# Altium integrated library Microchip PIC24F.IntLib: 529 symbols (part 1 of 32)
Pins are listed as number, name and electrical type; pins without a type are passive.

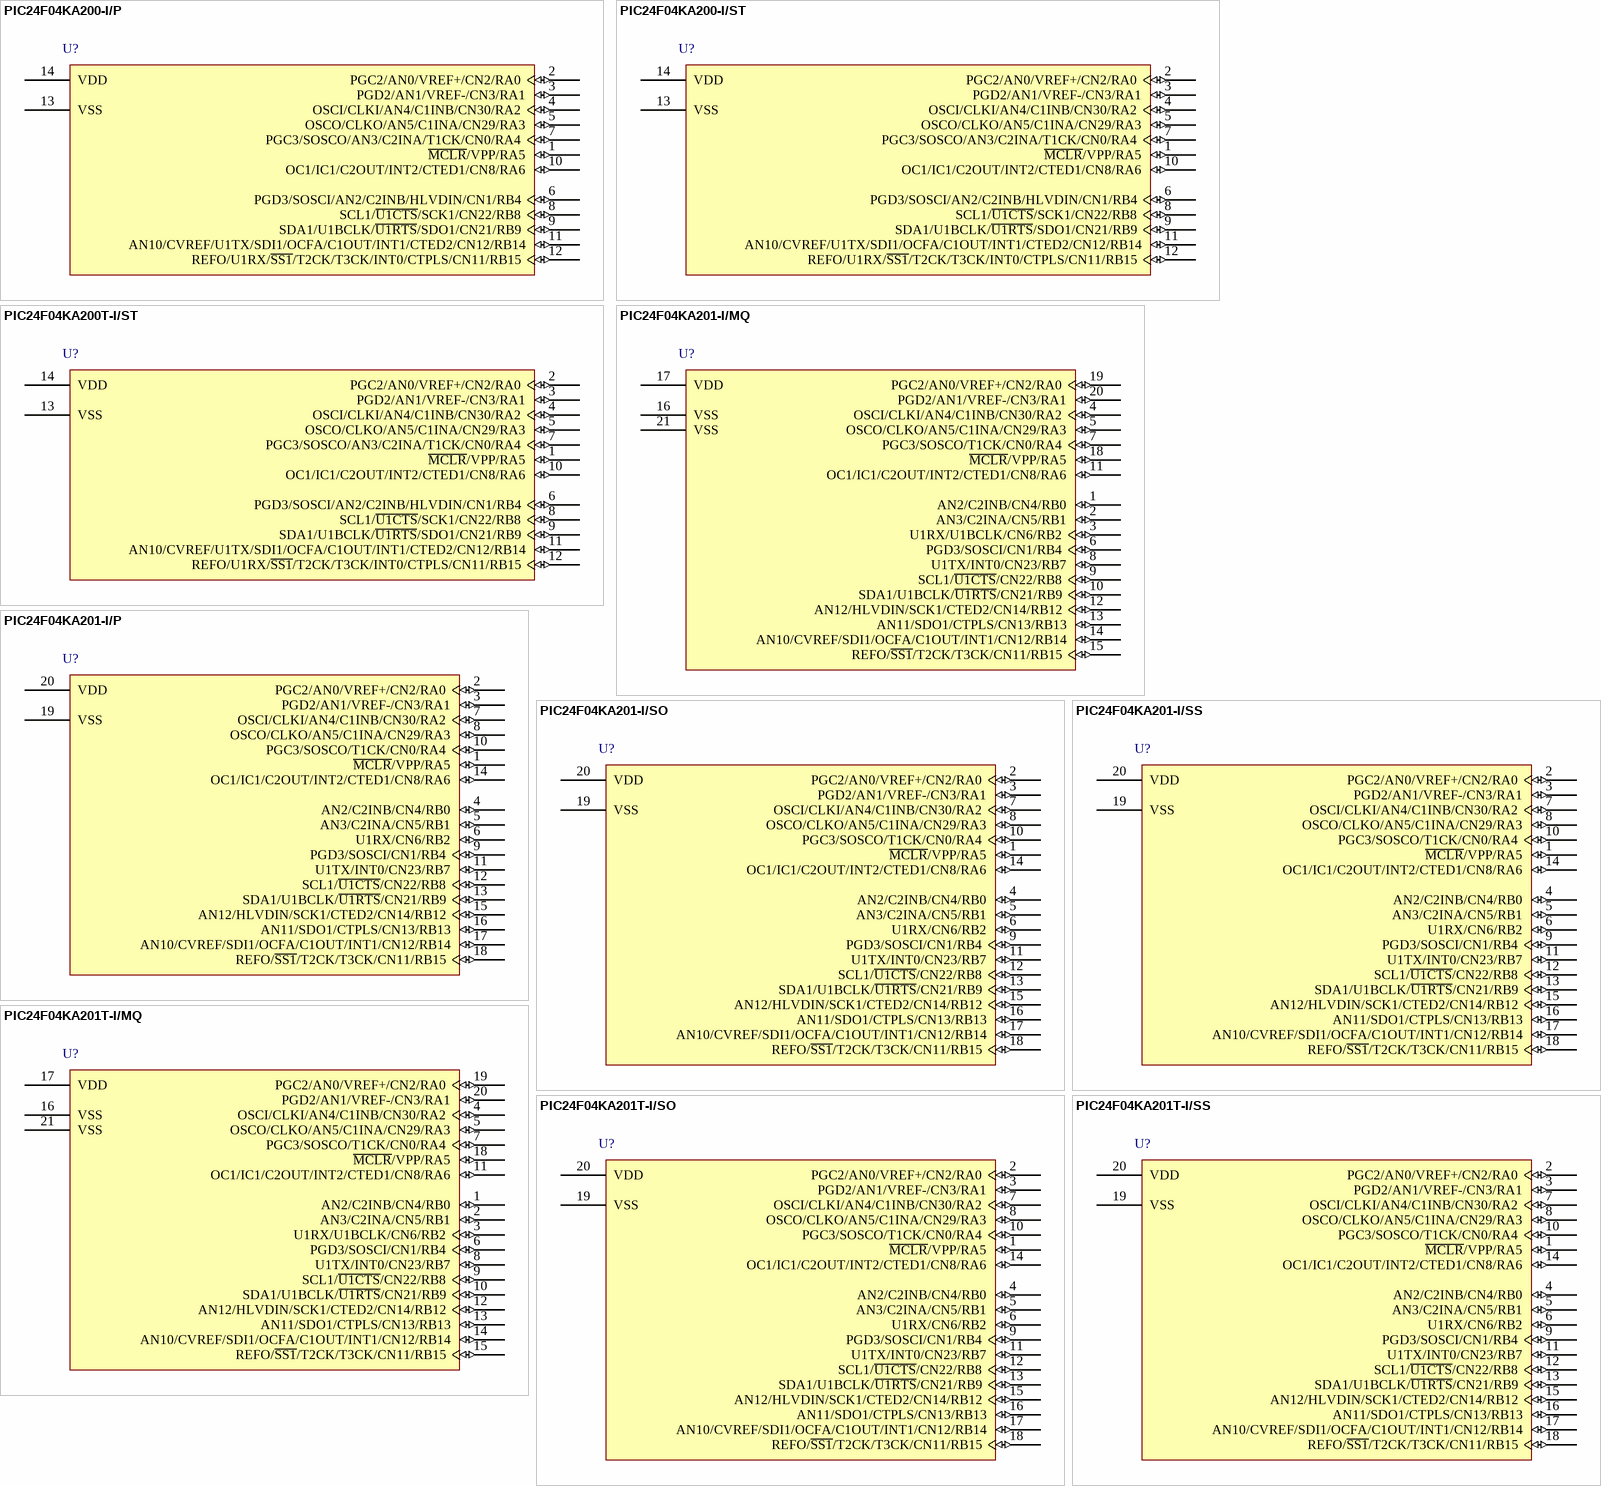
[diagram p0: symbols PIC24F04KA200-I/P to PIC24F04KA201T-I/SS]

## PIC24F04KA200-I/P
designator U?
General Purpose 16-Bit Flash Microcontroller with nanoWatt XLP Technology, 4KB Flash, 512 bytes SRAM, 14-Pin PDIP, Industrial Temperature; Manufacturer: Microchip; PartNumber: PIC24F04KA200-I/P; DatasheetVersion: revB, May-2009; PackageVersion: revBB, Aug-2009; PackageReference: PDIP300-P14; PackageDescription: 14-Lead Plastic Dual In-Line (P) - 300 mil Body [PDIP]; Supplier 1: Digi-Key; Supplier Part Number 1: PIC24F04KA200-I/P-ND; Supplier 2: Farnell; Supplier Part Number 2: 1740231; Supplier 3: Newark; Supplier Part Number 3: 08R2003; Supplier 4: Mouser; Supplier Part Number 4: 579-PIC24F04KA200-IP; Mounting Technology: Through Hole; ComponentLink1Description: Manufacturer URL; ComponentLink1URL: http://www.microchip.com/; ComponentLink2Description: Datasheet; ComponentLink2URL: http://ww1.microchip.com/downloads/en/DeviceDoc/39937b.pdf; ComponentLink3Description: Package Specification; ComponentLink3URL: http://www.microchip.com/stellent/groups/techpub_sg/documents/packagingspec/en012702.pdf
footprint PDIP300-P14 (DIP, 14-Leads, Row Spacing 7.62mm, Pitch 2.54mm, Body 19.2x6.6mm)
pins: 1 ~{MCLR}/VPP/RA5 (io), 2 PGC2/AN0/VREF+/CN2/RA0 (io), 3 PGD2/AN1/VREF-/CN3/RA1 (io), 4 OSCI/CLKI/AN4/C1INB/CN30/RA2 (io), 5 OSCO/CLKO/AN5/C1INA/CN29/RA3 (io), 6 PGD3/SOSCI/AN2/C2INB/HLVDIN/CN1/RB4 (io), 7 PGC3/SOSCO/AN3/C2INA/T1CK/CN0/RA4 (io), 8 SCL1/~{U1CTS}/SCK1/CN22/RB8 (io), 9 SDA1/U1BCLK/~{U1RTS}/SDO1/CN21/RB9 (io), 10 OC1/IC1/C2OUT/INT2/CTED1/CN8/RA6 (io), 11 AN10/CVREF/U1TX/SDI1/OCFA/C1OUT/INT1/CTED2/CN12/RB14 (io), 12 REFO/U1RX/~{SS1}/T2CK/T3CK/INT0/CTPLS/CN11/RB15 (io), 13 VSS (power), 14 VDD (power)

## PIC24F04KA200-I/ST
designator U?
General Purpose 16-Bit Flash Microcontroller with nanoWatt XLP Technology, 4KB Flash, 512 bytes SRAM, 14-Pin TSSOP, Industrial Temperature; Manufacturer: Microchip; PartNumber: PIC24F04KA200-I/ST; DatasheetVersion: revB, May-2009; PackageVersion: revBB, Aug-2009; PackageReference: TSSOP-ST14; PackageDescription: 14-Lead Plastic Thin Shrink Small Outline (ST) - 4.4mm Body [TSSOP]; Supplier 1: Digi-Key; Supplier Part Number 1: PIC24F04KA200-I/ST-ND; Supplier 2: Farnell; Supplier Part Number 2: 1740232; Supplier 3: Newark; Supplier Part Number 3: 08R2004; Supplier 4: Mouser; Supplier Part Number 4: 579-PIC24F04KA200IST; Mounting Technology: Surface Mount; ComponentLink1Description: Manufacturer URL; ComponentLink1URL: http://www.microchip.com/; ComponentLink2Description: Datasheet; ComponentLink2URL: http://ww1.microchip.com/downloads/en/DeviceDoc/39937b.pdf; ComponentLink3Description: Package Specification; ComponentLink3URL: http://www.microchip.com/stellent/groups/techpub_sg/documents/packagingspec/en012702.pdf
footprint TSSOP-ST14_N (TSOP, 14-Leads, Body 5x4.4mm, Pitch 0.65mm, IPC Medium Density)
footprint TSSOP-ST14_L (TSOP, 14-Leads, Body 5x4.4mm, Pitch 0.65mm, IPC High Density)
footprint TSSOP-ST14_M (TSOP, 14-Leads, Body 5x4.4mm, Pitch 0.65mm, IPC Low Density)
pins: 1 ~{MCLR}/VPP/RA5 (io), 2 PGC2/AN0/VREF+/CN2/RA0 (io), 3 PGD2/AN1/VREF-/CN3/RA1 (io), 4 OSCI/CLKI/AN4/C1INB/CN30/RA2 (io), 5 OSCO/CLKO/AN5/C1INA/CN29/RA3 (io), 6 PGD3/SOSCI/AN2/C2INB/HLVDIN/CN1/RB4 (io), 7 PGC3/SOSCO/AN3/C2INA/T1CK/CN0/RA4 (io), 8 SCL1/~{U1CTS}/SCK1/CN22/RB8 (io), 9 SDA1/U1BCLK/~{U1RTS}/SDO1/CN21/RB9 (io), 10 OC1/IC1/C2OUT/INT2/CTED1/CN8/RA6 (io), 11 AN10/CVREF/U1TX/SDI1/OCFA/C1OUT/INT1/CTED2/CN12/RB14 (io), 12 REFO/U1RX/~{SS1}/T2CK/T3CK/INT0/CTPLS/CN11/RB15 (io), 13 VSS (power), 14 VDD (power)

## PIC24F04KA200T-I/ST
designator U?
General Purpose 16-Bit Flash Microcontroller with nanoWatt XLP Technology, 4KB Flash, 512 bytes SRAM, 14-Pin TSSOP, Industrial Temperature, Tape and Reel; Manufacturer: Microchip; PartNumber: PIC24F04KA200T-I/ST; DatasheetVersion: revB, May-2009; PackageVersion: revBB, Aug-2009; PackageReference: TSSOP-ST14; PackageDescription: 14-Lead Plastic Thin Shrink Small Outline (ST) - 4.4mm Body [TSSOP]; Supplier 1: Digi-Key; Supplier Part Number 1: PIC24F04KA200T-I/ST-ND; Supplier 2: Newark; Supplier Part Number 2: 08R2005; Supplier 3: Mouser; Supplier Part Number 3: 579-24F04KA200T-I/ST; Mounting Technology: Surface Mount; ComponentLink1Description: Manufacturer URL; ComponentLink1URL: http://www.microchip.com/; ComponentLink2Description: Datasheet; ComponentLink2URL: http://ww1.microchip.com/downloads/en/DeviceDoc/39937b.pdf; ComponentLink3Description: Package Specification; ComponentLink3URL: http://www.microchip.com/stellent/groups/techpub_sg/documents/packagingspec/en012702.pdf
footprint TSSOP-ST14_N (TSOP, 14-Leads, Body 5x4.4mm, Pitch 0.65mm, IPC Medium Density)
footprint TSSOP-ST14_L (TSOP, 14-Leads, Body 5x4.4mm, Pitch 0.65mm, IPC High Density)
footprint TSSOP-ST14_M (TSOP, 14-Leads, Body 5x4.4mm, Pitch 0.65mm, IPC Low Density)
pins: 1 ~{MCLR}/VPP/RA5 (io), 2 PGC2/AN0/VREF+/CN2/RA0 (io), 3 PGD2/AN1/VREF-/CN3/RA1 (io), 4 OSCI/CLKI/AN4/C1INB/CN30/RA2 (io), 5 OSCO/CLKO/AN5/C1INA/CN29/RA3 (io), 6 PGD3/SOSCI/AN2/C2INB/HLVDIN/CN1/RB4 (io), 7 PGC3/SOSCO/AN3/C2INA/T1CK/CN0/RA4 (io), 8 SCL1/~{U1CTS}/SCK1/CN22/RB8 (io), 9 SDA1/U1BCLK/~{U1RTS}/SDO1/CN21/RB9 (io), 10 OC1/IC1/C2OUT/INT2/CTED1/CN8/RA6 (io), 11 AN10/CVREF/U1TX/SDI1/OCFA/C1OUT/INT1/CTED2/CN12/RB14 (io), 12 REFO/U1RX/~{SS1}/T2CK/T3CK/INT0/CTPLS/CN11/RB15 (io), 13 VSS (power), 14 VDD (power)

## PIC24F04KA201-I/MQ
designator U?
General Purpose 16-Bit Flash Microcontroller with nanoWatt XLP Technology, 4KB Flash, 512 bytes SRAM, 20-Pin QFN, Industrial Temperature; Manufacturer: Microchip; PartNumber: PIC24F04KA201-I/MQ; DatasheetVersion: revB, May-2009; PackageVersion: revBB, Aug-2009; PackageReference: QFN-MQ20; PackageDescription: 20-Lead Plastic Quad Flat, No Lead Package (MQ) - 5x5x0.9 mm Body [QFN]; Supplier 1: Digi-Key; Supplier Part Number 1: PIC24F04KA201-I/MQ-ND; Supplier 2: Farnell; Supplier Part Number 2: 1740233; Supplier 3: Newark; Supplier Part Number 3: 08R2006; Supplier 4: Mouser; Supplier Part Number 4: 579-PIC24F04KA201IMQ; Mounting Technology: Surface Mount; ComponentLink1Description: Manufacturer URL; ComponentLink1URL: http://www.microchip.com/; ComponentLink2Description: Datasheet; ComponentLink2URL: http://ww1.microchip.com/downloads/en/DeviceDoc/39937b.pdf; ComponentLink3Description: Package Specification; ComponentLink3URL: http://www.microchip.com/stellent/groups/techpub_sg/documents/packagingspec/en012702.pdf
footprint QFN-MQ20_N (QFN, 20-Leads, Body 5x5mm, Pitch 0.65mm, Thermal Pad 3.4x3.4mm, IPC Medium Density)
footprint QFN-MQ20_L (QFN, 20-Leads, Body 5x5mm, Pitch 0.65mm, Thermal Pad 3.4x3.4mm, IPC High Density)
footprint QFN-MQ20_M (QFN, 20-Leads, Body 5x5mm, Pitch 0.65mm, Thermal Pad 3.4x3.4mm, IPC Low Density)
pins: 1 AN2/C2INB/CN4/RB0 (io), 2 AN3/C2INA/CN5/RB1 (io), 3 U1RX/U1BCLK/CN6/RB2 (io), 4 OSCI/CLKI/AN4/C1INB/CN30/RA2 (io), 5 OSCO/CLKO/AN5/C1INA/CN29/RA3 (io), 6 PGD3/SOSCI/CN1/RB4 (io), 7 PGC3/SOSCO/T1CK/CN0/RA4 (io), 8 U1TX/INT0/CN23/RB7 (io), 9 SCL1/~{U1CTS}/CN22/RB8 (io), 10 SDA1/U1BCLK/~{U1RTS}/CN21/RB9 (io), 11 OC1/IC1/C2OUT/INT2/CTED1/CN8/RA6 (io), 12 AN12/HLVDIN/SCK1/CTED2/CN14/RB12 (io), 13 AN11/SDO1/CTPLS/CN13/RB13 (io), 14 AN10/CVREF/SDI1/OCFA/C1OUT/INT1/CN12/RB14 (io), 15 REFO/~{SS1}/T2CK/T3CK/CN11/RB15 (io), 16 VSS (power), 17 VDD (power), 18 ~{MCLR}/VPP/RA5 (io), 19 PGC2/AN0/VREF+/CN2/RA0 (io), 20 PGD2/AN1/VREF-/CN3/RA1 (io), 21 VSS (power)

## PIC24F04KA201-I/P
designator U?
General Purpose 16-Bit Flash Microcontroller with nanoWatt XLP Technology, 4KB Flash, 512 bytes SRAM, 20-Pin PDIP, Industrial Temperature; Manufacturer: Microchip; PartNumber: PIC24F04KA201-I/P; DatasheetVersion: revB, May-2009; PackageVersion: revBB, Aug-2009; PackageReference: PDIP300-P20; PackageDescription: 20-Lead Plastic Dual In-Line (P) - 300 mil Body [PDIP]; Supplier 1: Digi-Key; Supplier Part Number 1: PIC24F04KA201-I/P-ND; Supplier 2: Farnell; Supplier Part Number 2: 1740235; Supplier 3: Newark; Supplier Part Number 3: 08R2007; Supplier 4: Mouser; Supplier Part Number 4: 579-PIC24F04KA201-IP; Mounting Technology: Through Hole; ComponentLink1Description: Manufacturer URL; ComponentLink1URL: http://www.microchip.com/; ComponentLink2Description: Datasheet; ComponentLink2URL: http://ww1.microchip.com/downloads/en/DeviceDoc/39937b.pdf; ComponentLink3Description: Package Specification; ComponentLink3URL: http://www.microchip.com/stellent/groups/techpub_sg/documents/packagingspec/en012702.pdf
footprint PDIP300-P20 (DIP, 20-Leads, Row Spacing 7.62mm, Pitch 2.54mm, Body 25.9x6.6mm)
pins: 1 ~{MCLR}/VPP/RA5 (io), 2 PGC2/AN0/VREF+/CN2/RA0 (io), 3 PGD2/AN1/VREF-/CN3/RA1 (io), 4 AN2/C2INB/CN4/RB0 (io), 5 AN3/C2INA/CN5/RB1 (io), 6 U1RX/CN6/RB2 (io), 7 OSCI/CLKI/AN4/C1INB/CN30/RA2 (io), 8 OSCO/CLKO/AN5/C1INA/CN29/RA3 (io), 9 PGD3/SOSCI/CN1/RB4 (io), 10 PGC3/SOSCO/T1CK/CN0/RA4 (io), 11 U1TX/INT0/CN23/RB7 (io), 12 SCL1/~{U1CTS}/CN22/RB8 (io), 13 SDA1/U1BCLK/~{U1RTS}/CN21/RB9 (io), 14 OC1/IC1/C2OUT/INT2/CTED1/CN8/RA6 (io), 15 AN12/HLVDIN/SCK1/CTED2/CN14/RB12 (io), 16 AN11/SDO1/CTPLS/CN13/RB13 (io), 17 AN10/CVREF/SDI1/OCFA/C1OUT/INT1/CN12/RB14 (io), 18 REFO/~{SS1}/T2CK/T3CK/CN11/RB15 (io), 19 VSS (power), 20 VDD (power)

## PIC24F04KA201-I/SO
designator U?
General Purpose 16-Bit Flash Microcontroller with nanoWatt XLP Technology, 4KB Flash, 512 bytes SRAM, 20-Pin SOIC, Industrial Temperature; Manufacturer: Microchip; PartNumber: PIC24F04KA201-I/SO; DatasheetVersion: revB, May-2009; PackageVersion: revBB, Aug-2009; PackageReference: SOIC-SO20; PackageDescription: 20-Lead Plastic Small Outline (SO) - Wide 7.50mm Body [SOIC]; Supplier 1: Digi-Key; Supplier Part Number 1: PIC24F04KA201-I/SO-ND; Supplier 2: Farnell; Supplier Part Number 2: 1740236; Supplier 3: Newark; Supplier Part Number 3: 08R2008; Supplier 4: Mouser; Supplier Part Number 4: 579-PIC24F04KA201ISO; Mounting Technology: Surface Mount; Code_JEDEC: MS-013-AC; Code_IPC: SOIC127P1030-20; ComponentLink1Description: Manufacturer URL; ComponentLink1URL: http://www.microchip.com/; ComponentLink2Description: Datasheet; ComponentLink2URL: http://ww1.microchip.com/downloads/en/DeviceDoc/39937b.pdf; ComponentLink3Description: Package Specification; ComponentLink3URL: http://www.microchip.com/stellent/groups/techpub_sg/documents/packagingspec/en012702.pdf
footprint SOIC-SO20_N (SOIC, 20-Leads, Body 12.8x7.5mm, Pitch 1.27mm, IPC Medium Density)
footprint SOIC-SO20_L (SOIC, 20-Leads, Body 12.8x7.5mm, Pitch 1.27mm, IPC High Density)
footprint SOIC-SO20_M (SOIC, 20-Leads, Body 12.8x7.5mm, Pitch 1.27mm, IPC Low Density)
pins: 1 ~{MCLR}/VPP/RA5 (io), 2 PGC2/AN0/VREF+/CN2/RA0 (io), 3 PGD2/AN1/VREF-/CN3/RA1 (io), 4 AN2/C2INB/CN4/RB0 (io), 5 AN3/C2INA/CN5/RB1 (io), 6 U1RX/CN6/RB2 (io), 7 OSCI/CLKI/AN4/C1INB/CN30/RA2 (io), 8 OSCO/CLKO/AN5/C1INA/CN29/RA3 (io), 9 PGD3/SOSCI/CN1/RB4 (io), 10 PGC3/SOSCO/T1CK/CN0/RA4 (io), 11 U1TX/INT0/CN23/RB7 (io), 12 SCL1/~{U1CTS}/CN22/RB8 (io), 13 SDA1/U1BCLK/~{U1RTS}/CN21/RB9 (io), 14 OC1/IC1/C2OUT/INT2/CTED1/CN8/RA6 (io), 15 AN12/HLVDIN/SCK1/CTED2/CN14/RB12 (io), 16 AN11/SDO1/CTPLS/CN13/RB13 (io), 17 AN10/CVREF/SDI1/OCFA/C1OUT/INT1/CN12/RB14 (io), 18 REFO/~{SS1}/T2CK/T3CK/CN11/RB15 (io), 19 VSS (power), 20 VDD (power)

## PIC24F04KA201-I/SS
designator U?
General Purpose 16-Bit Flash Microcontroller with nanoWatt XLP Technology, 4KB Flash, 512 bytes SRAM, 20-Pin SSOP, Industrial Temperature; Manufacturer: Microchip; PartNumber: PIC24F04KA201-I/SS; DatasheetVersion: revB, May-2009; PackageVersion: revBB, Aug-2009; PackageReference: SSOP-SS20; PackageDescription: 20-Lead Plastic Shrink Small Outline (SS) - 5.3mm Body [SSOP]; Supplier 1: Digi-Key; Supplier Part Number 1: PIC24F04KA201-I/SS-ND; Supplier 2: Farnell; Supplier Part Number 2: 1740237; Supplier 3: Newark; Supplier Part Number 3: 08R2009; Supplier 4: Mouser; Supplier Part Number 4: 579-PIC24F04KA201ISS; Mounting Technology: Surface Mount; Code_JEDEC: MO-150; ComponentLink1Description: Manufacturer URL; ComponentLink1URL: http://www.microchip.com/; ComponentLink2Description: Datasheet; ComponentLink2URL: http://ww1.microchip.com/downloads/en/DeviceDoc/39937b.pdf; ComponentLink3Description: Package Specification; ComponentLink3URL: http://www.microchip.com/stellent/groups/techpub_sg/documents/packagingspec/en012702.pdf
footprint SSOP-SS20_N (SOP, 20-Leads, Body 7.2x5.2mm, Pitch 0.65mm, IPC Medium Density)
footprint SSOP-SS20_L (SOP, 20-Leads, Body 7.2x5.2mm, Pitch 0.65mm, IPC High Density)
footprint SSOP-SS20_M (SOP, 20-Leads, Body 7.2x5.2mm, Pitch 0.65mm, IPC Low Density)
pins: 1 ~{MCLR}/VPP/RA5 (io), 2 PGC2/AN0/VREF+/CN2/RA0 (io), 3 PGD2/AN1/VREF-/CN3/RA1 (io), 4 AN2/C2INB/CN4/RB0 (io), 5 AN3/C2INA/CN5/RB1 (io), 6 U1RX/CN6/RB2 (io), 7 OSCI/CLKI/AN4/C1INB/CN30/RA2 (io), 8 OSCO/CLKO/AN5/C1INA/CN29/RA3 (io), 9 PGD3/SOSCI/CN1/RB4 (io), 10 PGC3/SOSCO/T1CK/CN0/RA4 (io), 11 U1TX/INT0/CN23/RB7 (io), 12 SCL1/~{U1CTS}/CN22/RB8 (io), 13 SDA1/U1BCLK/~{U1RTS}/CN21/RB9 (io), 14 OC1/IC1/C2OUT/INT2/CTED1/CN8/RA6 (io), 15 AN12/HLVDIN/SCK1/CTED2/CN14/RB12 (io), 16 AN11/SDO1/CTPLS/CN13/RB13 (io), 17 AN10/CVREF/SDI1/OCFA/C1OUT/INT1/CN12/RB14 (io), 18 REFO/~{SS1}/T2CK/T3CK/CN11/RB15 (io), 19 VSS (power), 20 VDD (power)

## PIC24F04KA201T-I/MQ
designator U?
General Purpose 16-Bit Flash Microcontroller with nanoWatt XLP Technology, 4KB Flash, 512 bytes SRAM, 20-Pin QFN, Industrial Temperature, Tape and Reel; Manufacturer: Microchip; PartNumber: PIC24F04KA201T-I/MQ; DatasheetVersion: revB, May-2009; PackageVersion: revBB, Aug-2009; PackageReference: QFN-MQ20; PackageDescription: 20-Lead Plastic Quad Flat, No Lead Package (MQ) - 5x5x0.9 mm Body [QFN]; Supplier 1: Digi-Key; Supplier Part Number 1: PIC24F04KA201T-I/MQ-ND; Supplier 2: Mouser; Supplier Part Number 2: N/A; Mounting Technology: Surface Mount; ComponentLink1Description: Manufacturer URL; ComponentLink1URL: http://www.microchip.com/; ComponentLink2Description: Datasheet; ComponentLink2URL: http://ww1.microchip.com/downloads/en/DeviceDoc/39937b.pdf; ComponentLink3Description: Package Specification; ComponentLink3URL: http://www.microchip.com/stellent/groups/techpub_sg/documents/packagingspec/en012702.pdf
footprint QFN-MQ20_N (QFN, 20-Leads, Body 5x5mm, Pitch 0.65mm, Thermal Pad 3.4x3.4mm, IPC Medium Density)
footprint QFN-MQ20_L (QFN, 20-Leads, Body 5x5mm, Pitch 0.65mm, Thermal Pad 3.4x3.4mm, IPC High Density)
footprint QFN-MQ20_M (QFN, 20-Leads, Body 5x5mm, Pitch 0.65mm, Thermal Pad 3.4x3.4mm, IPC Low Density)
pins: 1 AN2/C2INB/CN4/RB0 (io), 2 AN3/C2INA/CN5/RB1 (io), 3 U1RX/U1BCLK/CN6/RB2 (io), 4 OSCI/CLKI/AN4/C1INB/CN30/RA2 (io), 5 OSCO/CLKO/AN5/C1INA/CN29/RA3 (io), 6 PGD3/SOSCI/CN1/RB4 (io), 7 PGC3/SOSCO/T1CK/CN0/RA4 (io), 8 U1TX/INT0/CN23/RB7 (io), 9 SCL1/~{U1CTS}/CN22/RB8 (io), 10 SDA1/U1BCLK/~{U1RTS}/CN21/RB9 (io), 11 OC1/IC1/C2OUT/INT2/CTED1/CN8/RA6 (io), 12 AN12/HLVDIN/SCK1/CTED2/CN14/RB12 (io), 13 AN11/SDO1/CTPLS/CN13/RB13 (io), 14 AN10/CVREF/SDI1/OCFA/C1OUT/INT1/CN12/RB14 (io), 15 REFO/~{SS1}/T2CK/T3CK/CN11/RB15 (io), 16 VSS (power), 17 VDD (power), 18 ~{MCLR}/VPP/RA5 (io), 19 PGC2/AN0/VREF+/CN2/RA0 (io), 20 PGD2/AN1/VREF-/CN3/RA1 (io), 21 VSS (power)

## PIC24F04KA201T-I/SO
designator U?
General Purpose 16-Bit Flash Microcontroller with nanoWatt XLP Technology, 4KB Flash, 512 bytes SRAM, 20-Pin SOIC, Industrial Temperature, Tape and Reel; Manufacturer: Microchip; PartNumber: PIC24F04KA201T-I/SO; DatasheetVersion: revB, May-2009; PackageVersion: revBB, Aug-2009; PackageReference: SOIC-SO20; PackageDescription: 20-Lead Plastic Small Outline (SO) - Wide 7.50mm Body [SOIC]; Supplier 1: Digi-Key; Supplier Part Number 1: PIC24F04KA201T-I/SO-ND; Supplier 2: Mouser; Supplier Part Number 2: 579-24F04KA201T-I/SO; Mounting Technology: Surface Mount; Code_JEDEC: MS-013-AC; Code_IPC: SOIC127P1030-20; ComponentLink1Description: Manufacturer URL; ComponentLink1URL: http://www.microchip.com/; ComponentLink2Description: Datasheet; ComponentLink2URL: http://ww1.microchip.com/downloads/en/DeviceDoc/39937b.pdf; ComponentLink3Description: Package Specification; ComponentLink3URL: http://www.microchip.com/stellent/groups/techpub_sg/documents/packagingspec/en012702.pdf
footprint SOIC-SO20_N (SOIC, 20-Leads, Body 12.8x7.5mm, Pitch 1.27mm, IPC Medium Density)
footprint SOIC-SO20_L (SOIC, 20-Leads, Body 12.8x7.5mm, Pitch 1.27mm, IPC High Density)
footprint SOIC-SO20_M (SOIC, 20-Leads, Body 12.8x7.5mm, Pitch 1.27mm, IPC Low Density)
pins: 1 ~{MCLR}/VPP/RA5 (io), 2 PGC2/AN0/VREF+/CN2/RA0 (io), 3 PGD2/AN1/VREF-/CN3/RA1 (io), 4 AN2/C2INB/CN4/RB0 (io), 5 AN3/C2INA/CN5/RB1 (io), 6 U1RX/CN6/RB2 (io), 7 OSCI/CLKI/AN4/C1INB/CN30/RA2 (io), 8 OSCO/CLKO/AN5/C1INA/CN29/RA3 (io), 9 PGD3/SOSCI/CN1/RB4 (io), 10 PGC3/SOSCO/T1CK/CN0/RA4 (io), 11 U1TX/INT0/CN23/RB7 (io), 12 SCL1/~{U1CTS}/CN22/RB8 (io), 13 SDA1/U1BCLK/~{U1RTS}/CN21/RB9 (io), 14 OC1/IC1/C2OUT/INT2/CTED1/CN8/RA6 (io), 15 AN12/HLVDIN/SCK1/CTED2/CN14/RB12 (io), 16 AN11/SDO1/CTPLS/CN13/RB13 (io), 17 AN10/CVREF/SDI1/OCFA/C1OUT/INT1/CN12/RB14 (io), 18 REFO/~{SS1}/T2CK/T3CK/CN11/RB15 (io), 19 VSS (power), 20 VDD (power)

## PIC24F04KA201T-I/SS
designator U?
General Purpose 16-Bit Flash Microcontroller with nanoWatt XLP Technology, 4KB Flash, 512 bytes SRAM, 20-Pin SSOP, Industrial Temperature, Tape and Reel; Manufacturer: Microchip; PartNumber: PIC24F04KA201T-I/SS; DatasheetVersion: revB, May-2009; PackageVersion: revBB, Aug-2009; PackageReference: SSOP-SS20; PackageDescription: 20-Lead Plastic Shrink Small Outline (SS) - 5.3mm Body [SSOP]; Supplier 1: Digi-Key; Supplier Part Number 1: PIC24F04KA201T-I/SS-ND; Supplier 2: Newark; Supplier Part Number 2: 08R2012; Supplier 3: Mouser; Supplier Part Number 3: 579-24F04KA201T-I/SS; Mounting Technology: Surface Mount; Code_JEDEC: MO-150; ComponentLink1Description: Manufacturer URL; ComponentLink1URL: http://www.microchip.com/; ComponentLink2Description: Datasheet; ComponentLink2URL: http://ww1.microchip.com/downloads/en/DeviceDoc/39937b.pdf; ComponentLink3Description: Package Specification; ComponentLink3URL: http://www.microchip.com/stellent/groups/techpub_sg/documents/packagingspec/en012702.pdf
footprint SSOP-SS20_N (SOP, 20-Leads, Body 7.2x5.2mm, Pitch 0.65mm, IPC Medium Density)
footprint SSOP-SS20_L (SOP, 20-Leads, Body 7.2x5.2mm, Pitch 0.65mm, IPC High Density)
footprint SSOP-SS20_M (SOP, 20-Leads, Body 7.2x5.2mm, Pitch 0.65mm, IPC Low Density)
pins: 1 ~{MCLR}/VPP/RA5 (io), 2 PGC2/AN0/VREF+/CN2/RA0 (io), 3 PGD2/AN1/VREF-/CN3/RA1 (io), 4 AN2/C2INB/CN4/RB0 (io), 5 AN3/C2INA/CN5/RB1 (io), 6 U1RX/CN6/RB2 (io), 7 OSCI/CLKI/AN4/C1INB/CN30/RA2 (io), 8 OSCO/CLKO/AN5/C1INA/CN29/RA3 (io), 9 PGD3/SOSCI/CN1/RB4 (io), 10 PGC3/SOSCO/T1CK/CN0/RA4 (io), 11 U1TX/INT0/CN23/RB7 (io), 12 SCL1/~{U1CTS}/CN22/RB8 (io), 13 SDA1/U1BCLK/~{U1RTS}/CN21/RB9 (io), 14 OC1/IC1/C2OUT/INT2/CTED1/CN8/RA6 (io), 15 AN12/HLVDIN/SCK1/CTED2/CN14/RB12 (io), 16 AN11/SDO1/CTPLS/CN13/RB13 (io), 17 AN10/CVREF/SDI1/OCFA/C1OUT/INT1/CN12/RB14 (io), 18 REFO/~{SS1}/T2CK/T3CK/CN11/RB15 (io), 19 VSS (power), 20 VDD (power)

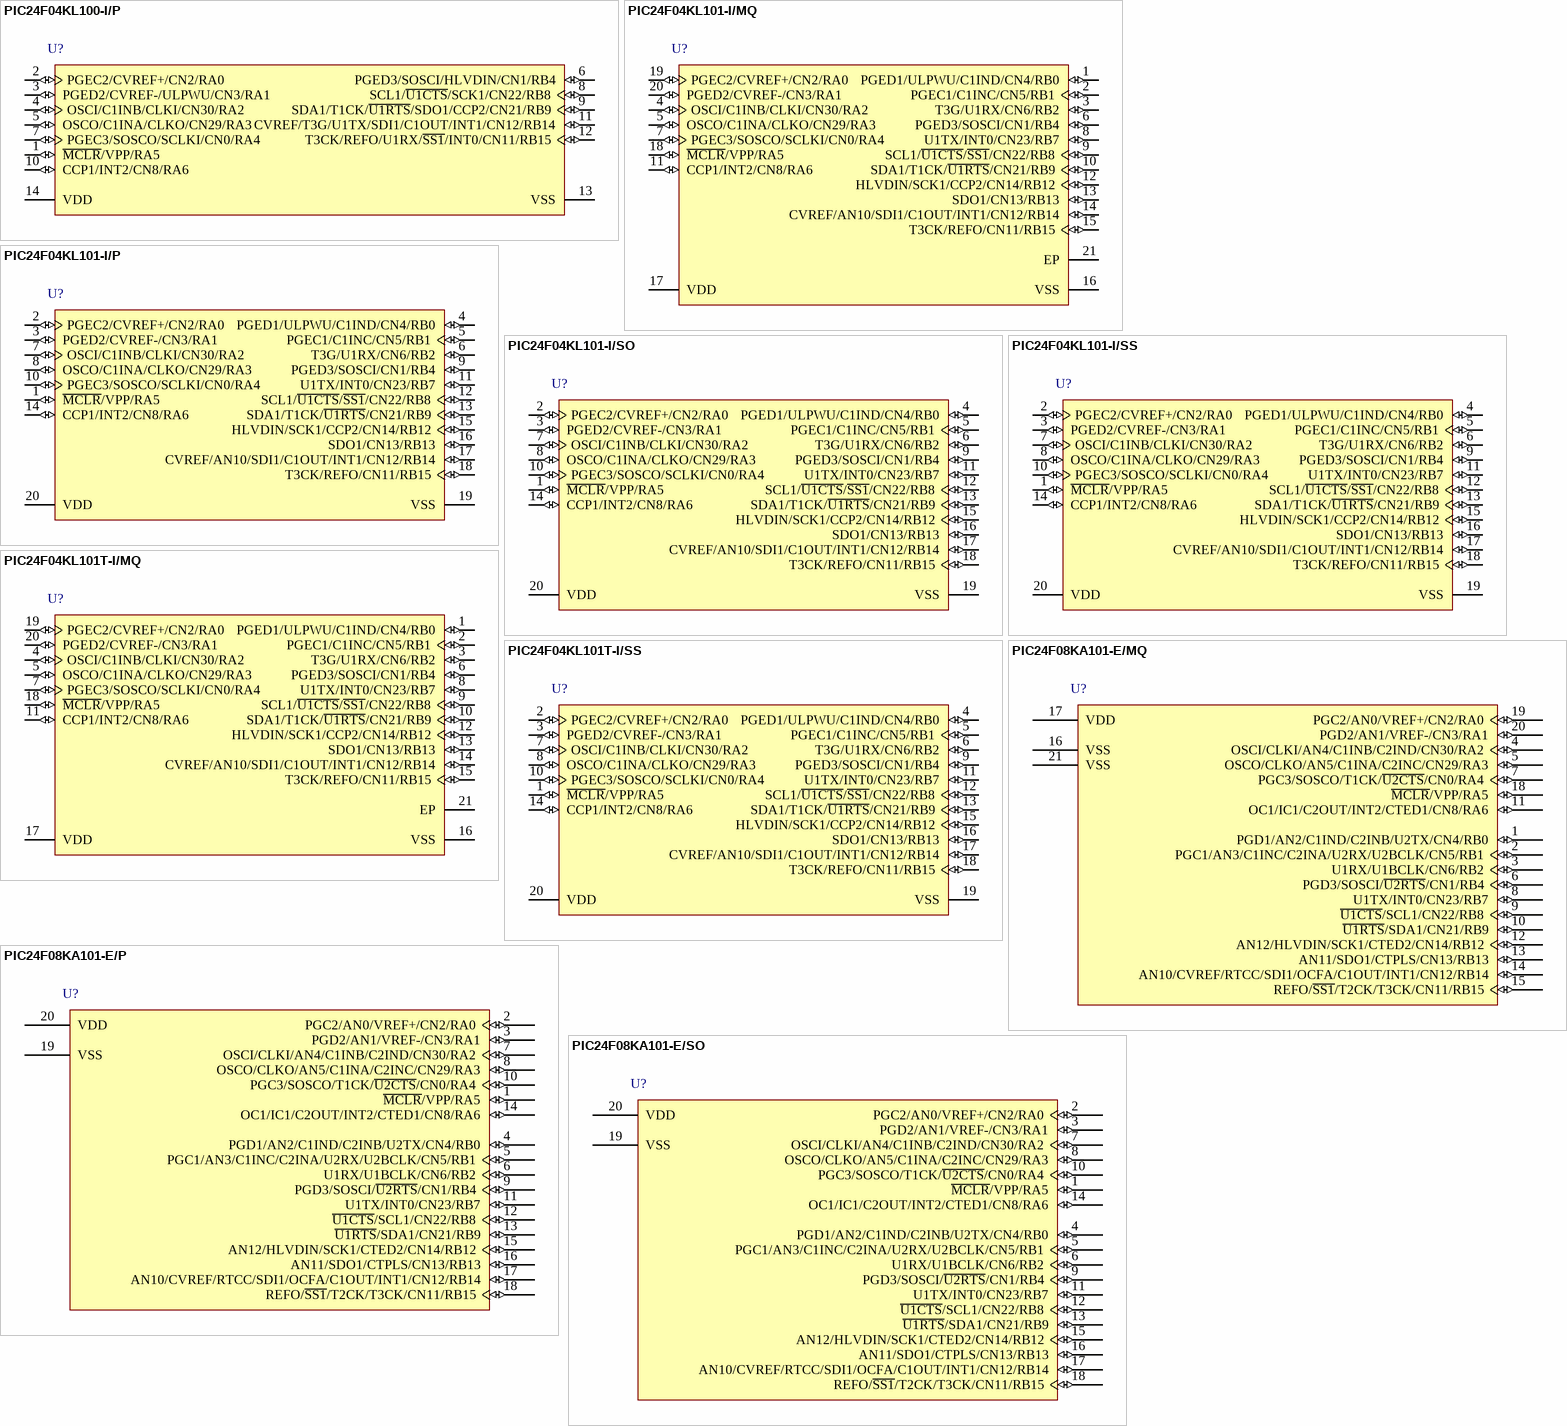
[diagram p1: symbols PIC24F04KL100-I/P to PIC24F08KA101-E/SO]

## PIC24F04KL100-I/P
designator U?
Low-Cost General Purpose 16-Bit Flash Microcontroller with nanoWatt XLP Technology, 16 MIPS, 12 I/O, -40 to 85 degC, 14-pin PDIP (P14), Tube; Manufacturer: Microchip; PartNumber: PIC24F04KL100-I/P; DatasheetVersion: Rev. B; PackageVersion: C04-005B; PackageReference: PDIP-P14; PackageDescription: 14-Lead Plastic Dual In-Line, 6.6 x 19.18 mm Body, 2.54 mm Pitch; Supplier 1: Digi-Key; Supplier Part Number 1: PIC24F04KL100-I/P-ND; Supplier 2: Newark; Supplier Part Number 2: 64T1077; Supplier 3: Mouser; Supplier Part Number 3: 579-PIC24F04KL100I/P; Mounting Technology: Through Hole; ComponentLink1Description: Manufacturer URL; ComponentLink1URL: http://www.microchip.com; ComponentLink2Description: Datasheet; ComponentLink2URL: http://ww1.microchip.com/downloads/en/DeviceDoc/31037b.pdf; ComponentLink3Description: Package Specification; ComponentLink3URL: http://www.microchip.com/stellent/groups/techpub_sg/documents/packagingspec/en012702.pdf; ComponentLink4Description: Product URL; ComponentLink4URL: http://www.microchip.com/PIC24F04KL100
footprint MCHP-PDIP-P14 (DIP, 14-Leads, Body 19.177x6.604mm, Pitch 2.54mm)
pins: 1 ~{MCLR}/VPP/RA5 (io), 2 PGEC2/CVREF+/CN2/RA0 (io), 3 PGED2/CVREF-/ULPWU/CN3/RA1 (io), 4 OSCI/C1INB/CLKI/CN30/RA2 (io), 5 OSCO/C1INA/CLKO/CN29/RA3 (io), 6 PGED3/SOSCI/HLVDIN/CN1/RB4 (io), 7 PGEC3/SOSCO/SCLKI/CN0/RA4 (io), 8 SCL1/~{U1CTS}/SCK1/CN22/RB8 (io), 9 SDA1/T1CK/~{U1RTS}/SDO1/CCP2/CN21/RB9 (io), 10 CCP1/INT2/CN8/RA6 (io), 11 CVREF/T3G/U1TX/SDI1/C1OUT/INT1/CN12/RB14 (io), 12 T3CK/REFO/U1RX/~{SS1}/INT0/CN11/RB15 (io), 13 VSS (power) "Ground Reference for Logic and I/O Pins", 14 VDD (power) "Positive Supply for Peripheral Digital Logic and I/O Pins"

## PIC24F04KL101-I/MQ
designator U?
Low-Cost General Purpose 16-Bit Flash Microcontroller with nanoWatt XLP Technology, 16 MIPS, 17 I/O, -40 to 85 degC, 20-pin QFN (MQ20), Tube; Manufacturer: Microchip; PartNumber: PIC24F04KL101-I/MQ; DatasheetVersion: Rev. B; PackageVersion: C04-139B; PackageReference: QFN-MQ20; PackageDescription: 20-Lead Plastic Quad Flat, No Lead Package, 5 x 5 mm Body, 0.65 mm Pitch; Supplier 1: Digi-Key; Supplier Part Number 1: PIC24F04KL101-I/MQ-ND; Supplier 2: Mouser; Supplier Part Number 2: 579-PIC24F04KL101IMQ; Mounting Technology: Surface Mount; ComponentLink1Description: Manufacturer URL; ComponentLink1URL: http://www.microchip.com; ComponentLink2Description: Datasheet; ComponentLink2URL: http://ww1.microchip.com/downloads/en/DeviceDoc/31037b.pdf; ComponentLink3Description: Package Specification; ComponentLink3URL: http://www.microchip.com/stellent/groups/techpub_sg/documents/packagingspec/en012702.pdf; ComponentLink4Description: Product URL; ComponentLink4URL: http://www.microchip.com/PIC24F04KL101
footprint MCHP-QFN-MQ20_N (QFN, 20-Leads, Body 5x5mm, Pitch 0.65mm, Thermal Pad 3.25x3.25mm, IPC Medium Density)
footprint MCHP-QFN-MQ20_L (QFN, 20-Leads, Body 5x5mm, Pitch 0.65mm, Thermal Pad 3.25x3.25mm, IPC High Density)
footprint MCHP-QFN-MQ20_M (QFN, 20-Leads, Body 5x5mm, Pitch 0.65mm, Thermal Pad 3.25x3.25mm, IPC Low Density)
pins: 1 PGED1/ULPWU/C1IND/CN4/RB0 (io), 2 PGEC1/C1INC/CN5/RB1 (io), 3 T3G/U1RX/CN6/RB2 (io), 4 OSCI/C1INB/CLKI/CN30/RA2 (io), 5 OSCO/C1INA/CLKO/CN29/RA3 (io), 6 PGED3/SOSCI/CN1/RB4 (io), 7 PGEC3/SOSCO/SCLKI/CN0/RA4 (io), 8 U1TX/INT0/CN23/RB7 (io), 9 SCL1/~{U1CTS}/~{SS1}/CN22/RB8 (io), 10 SDA1/T1CK/~{U1RTS}/CN21/RB9 (io), 11 CCP1/INT2/CN8/RA6 (io), 12 HLVDIN/SCK1/CCP2/CN14/RB12 (io), 13 SDO1/CN13/RB13 (io), 14 CVREF/AN10/SDI1/C1OUT/INT1/CN12/RB14 (io), 15 T3CK/REFO/CN11/RB15 (io), 16 VSS (power) "Ground Reference for Logic and I/O Pins", 17 VDD (power) "Positive Supply for Peripheral Digital Logic and I/O Pins", 18 ~{MCLR}/VPP/RA5 (io), 19 PGEC2/CVREF+/CN2/RA0 (io), 20 PGED2/CVREF-/CN3/RA1 (io), 21 EP (power) "Exposed Pad"

## PIC24F04KL101-I/P
designator U?
Low-Cost General Purpose 16-Bit Flash Microcontroller with nanoWatt XLP Technology, 16 MIPS, 17 I/O, -40 to 85 degC, 20-pin PDIP (P20), Tube; Manufacturer: Microchip; PartNumber: PIC24F04KL101-I/P; DatasheetVersion: Rev. B; PackageVersion: C04-019B; PackageReference: PDIP-P20; PackageDescription: 20-Pin Plastic Dual In-Line, Row Spacing 7.62 mm, 25.91 x 6.6 mm Body, 2.54 mm Pitch; Supplier 1: Digi-Key; Supplier Part Number 1: PIC24F04KL101-I/P-ND; Supplier 2: Mouser; Supplier Part Number 2: 579-PIC24F04KL101-IP; Mounting Technology: Through Hole; ComponentLink1Description: Manufacturer URL; ComponentLink1URL: http://www.microchip.com; ComponentLink2Description: Datasheet; ComponentLink2URL: http://ww1.microchip.com/downloads/en/DeviceDoc/31037b.pdf; ComponentLink3Description: Package Specification; ComponentLink3URL: http://www.microchip.com/stellent/groups/techpub_sg/documents/packagingspec/en012702.pdf; ComponentLink4Description: Product URL; ComponentLink4URL: http://www.microchip.com/PIC24F04KL101
footprint MCHP-PDIP-P20 (DIP, 20-Leads, Body 25.91x6.6mm, Pitch 2.54mm)
pins: 1 ~{MCLR}/VPP/RA5 (io), 2 PGEC2/CVREF+/CN2/RA0 (io), 3 PGED2/CVREF-/CN3/RA1 (io), 4 PGED1/ULPWU/C1IND/CN4/RB0 (io), 5 PGEC1/C1INC/CN5/RB1 (io), 6 T3G/U1RX/CN6/RB2 (io), 7 OSCI/C1INB/CLKI/CN30/RA2 (io), 8 OSCO/C1INA/CLKO/CN29/RA3 (io), 9 PGED3/SOSCI/CN1/RB4 (io), 10 PGEC3/SOSCO/SCLKI/CN0/RA4 (io), 11 U1TX/INT0/CN23/RB7 (io), 12 SCL1/~{U1CTS}/~{SS1}/CN22/RB8 (io), 13 SDA1/T1CK/~{U1RTS}/CN21/RB9 (io), 14 CCP1/INT2/CN8/RA6 (io), 15 HLVDIN/SCK1/CCP2/CN14/RB12 (io), 16 SDO1/CN13/RB13 (io), 17 CVREF/AN10/SDI1/C1OUT/INT1/CN12/RB14 (io), 18 T3CK/REFO/CN11/RB15 (io), 19 VSS (power) "Ground Reference for Logic and I/O Pins", 20 VDD (power) "Positive Supply for Peripheral Digital Logic and I/O Pins"

## PIC24F04KL101-I/SO
designator U?
Low-Cost General Purpose 16-Bit Flash Microcontroller with nanoWatt XLP Technology, 16 MIPS, 17 I/O, -40 to 85 degC, 20-pin SOIC (SO20), Tube; Manufacturer: Microchip; PartNumber: PIC24F04KL101-I/SO; DatasheetVersion: Rev. B; PackageVersion: C04-094C; PackageReference: SOIC-SO20; PackageDescription: 20-Lead Plastic Small Outline, 7.5 x 12.8 mm Body, 1.27 mm Pitch; Supplier 1: Digi-Key; Supplier Part Number 1: PIC24F04KL101-I/SO-ND; Supplier 2: Farnell; Supplier Part Number 2: 2079391; Supplier 3: Newark; Supplier Part Number 3: 64T1082; Supplier 4: Mouser; Supplier Part Number 4: 579-PIC24F04KL101ISO; Mounting Technology: Surface Mount; ComponentLink1Description: Manufacturer URL; ComponentLink1URL: http://www.microchip.com; ComponentLink2Description: Datasheet; ComponentLink2URL: http://ww1.microchip.com/downloads/en/DeviceDoc/31037b.pdf; ComponentLink3Description: Package Specification; ComponentLink3URL: http://www.microchip.com/stellent/groups/techpub_sg/documents/packagingspec/en012702.pdf; ComponentLink4Description: Product URL; ComponentLink4URL: http://www.microchip.com/PIC24F04KL101
footprint MCHP-SOIC-SO20_N (SOIC, 20-Leads, Body 12.8x7.5mm, Pitch 1.27mm, , IPC Medium Density)
footprint MCHP-SOIC-SO20_L (SOIC, 20-Leads, Body 12.8x7.5mm, Pitch 1.27mm, , IPC High Density)
footprint MCHP-SOIC-SO20_M (SOIC, 20-Leads, Body 12.8x7.5mm, Pitch 1.27mm, , IPC Low Density)
pins: 1 ~{MCLR}/VPP/RA5 (io), 2 PGEC2/CVREF+/CN2/RA0 (io), 3 PGED2/CVREF-/CN3/RA1 (io), 4 PGED1/ULPWU/C1IND/CN4/RB0 (io), 5 PGEC1/C1INC/CN5/RB1 (io), 6 T3G/U1RX/CN6/RB2 (io), 7 OSCI/C1INB/CLKI/CN30/RA2 (io), 8 OSCO/C1INA/CLKO/CN29/RA3 (io), 9 PGED3/SOSCI/CN1/RB4 (io), 10 PGEC3/SOSCO/SCLKI/CN0/RA4 (io), 11 U1TX/INT0/CN23/RB7 (io), 12 SCL1/~{U1CTS}/~{SS1}/CN22/RB8 (io), 13 SDA1/T1CK/~{U1RTS}/CN21/RB9 (io), 14 CCP1/INT2/CN8/RA6 (io), 15 HLVDIN/SCK1/CCP2/CN14/RB12 (io), 16 SDO1/CN13/RB13 (io), 17 CVREF/AN10/SDI1/C1OUT/INT1/CN12/RB14 (io), 18 T3CK/REFO/CN11/RB15 (io), 19 VSS (power) "Ground Reference for Logic and I/O Pins", 20 VDD (power) "Positive Supply for Peripheral Digital Logic and I/O Pins"

## PIC24F04KL101-I/SS
designator U?
Low-Cost General Purpose 16-Bit Flash Microcontroller with nanoWatt XLP Technology, 16 MIPS, 17 I/O, -40 to 85 degC, 20-pin SSOP (SS20), Tube; Manufacturer: Microchip; PartNumber: PIC24F04KL101-I/SS; DatasheetVersion: Rev. B; PackageVersion: C04-072B; PackageReference: SSOP-SS20; PackageDescription: 20-Lead Plastic Shrink Small Outline, 5.3 x 7.2 mm Body, 0.65 mm Pitch; Supplier 1: Digi-Key; Supplier Part Number 1: PIC24F04KL101-I/SS-ND; Supplier 2: Farnell; Supplier Part Number 2: 2079393; Supplier 3: Newark; Supplier Part Number 3: 64T1083; Supplier 4: Mouser; Supplier Part Number 4: 579-PIC24F04KL101ISS; Mounting Technology: Surface Mount; ComponentLink1Description: Manufacturer URL; ComponentLink1URL: http://www.microchip.com; ComponentLink2Description: Datasheet; ComponentLink2URL: http://ww1.microchip.com/downloads/en/DeviceDoc/31037b.pdf; ComponentLink3Description: Package Specification; ComponentLink3URL: http://www.microchip.com/stellent/groups/techpub_sg/documents/packagingspec/en012702.pdf; ComponentLink4Description: Product URL; ComponentLink4URL: http://www.microchip.com/PIC24F04KL101
footprint MCHP-SSOP-SS20_N (SOP, 20-Leads, Body 7.2x5.3mm, Pitch 0.65mm, IPC Medium Density)
footprint MCHP-SSOP-SS20_L (SOP, 20-Leads, Body 7.2x5.3mm, Pitch 0.65mm, IPC High Density)
footprint MCHP-SSOP-SS20_M (SOP, 20-Leads, Body 7.2x5.3mm, Pitch 0.65mm, IPC Low Density)
pins: 1 ~{MCLR}/VPP/RA5 (io), 2 PGEC2/CVREF+/CN2/RA0 (io), 3 PGED2/CVREF-/CN3/RA1 (io), 4 PGED1/ULPWU/C1IND/CN4/RB0 (io), 5 PGEC1/C1INC/CN5/RB1 (io), 6 T3G/U1RX/CN6/RB2 (io), 7 OSCI/C1INB/CLKI/CN30/RA2 (io), 8 OSCO/C1INA/CLKO/CN29/RA3 (io), 9 PGED3/SOSCI/CN1/RB4 (io), 10 PGEC3/SOSCO/SCLKI/CN0/RA4 (io), 11 U1TX/INT0/CN23/RB7 (io), 12 SCL1/~{U1CTS}/~{SS1}/CN22/RB8 (io), 13 SDA1/T1CK/~{U1RTS}/CN21/RB9 (io), 14 CCP1/INT2/CN8/RA6 (io), 15 HLVDIN/SCK1/CCP2/CN14/RB12 (io), 16 SDO1/CN13/RB13 (io), 17 CVREF/AN10/SDI1/C1OUT/INT1/CN12/RB14 (io), 18 T3CK/REFO/CN11/RB15 (io), 19 VSS (power) "Ground Reference for Logic and I/O Pins", 20 VDD (power) "Positive Supply for Peripheral Digital Logic and I/O Pins"

## PIC24F04KL101T-I/MQ
designator U?
Low-Cost General Purpose 16-Bit Flash Microcontroller with nanoWatt XLP Technology, 16 MIPS, 17 I/O, -40 to 85 degC, 20-pin QFN (MQ20), Tape and Reel; Manufacturer: Microchip; PartNumber: PIC24F04KL101T-I/MQ; DatasheetVersion: Rev. B; PackageVersion: C04-139B; PackageReference: QFN-MQ20; PackageDescription: 20-Lead Plastic Quad Flat, No Lead Package, 5 x 5 mm Body, 0.65 mm Pitch; Supplier 1: Digi-Key; Supplier Part Number 1: PIC24F04KL101T-I/MQ-ND; Supplier 2: Mouser; Supplier Part Number 2: 579-PIC24F04K101TIMQ; Mounting Technology: Surface Mount; ComponentLink1Description: Manufacturer URL; ComponentLink1URL: http://www.microchip.com; ComponentLink2Description: Datasheet; ComponentLink2URL: http://ww1.microchip.com/downloads/en/DeviceDoc/31037b.pdf; ComponentLink3Description: Package Specification; ComponentLink3URL: http://www.microchip.com/stellent/groups/techpub_sg/documents/packagingspec/en012702.pdf; ComponentLink4Description: Product URL; ComponentLink4URL: http://www.microchip.com/PIC24F04KL101
footprint MCHP-QFN-MQ20_N (QFN, 20-Leads, Body 5x5mm, Pitch 0.65mm, Thermal Pad 3.25x3.25mm, IPC Medium Density)
footprint MCHP-QFN-MQ20_L (QFN, 20-Leads, Body 5x5mm, Pitch 0.65mm, Thermal Pad 3.25x3.25mm, IPC High Density)
footprint MCHP-QFN-MQ20_M (QFN, 20-Leads, Body 5x5mm, Pitch 0.65mm, Thermal Pad 3.25x3.25mm, IPC Low Density)
pins: 1 PGED1/ULPWU/C1IND/CN4/RB0 (io), 2 PGEC1/C1INC/CN5/RB1 (io), 3 T3G/U1RX/CN6/RB2 (io), 4 OSCI/C1INB/CLKI/CN30/RA2 (io), 5 OSCO/C1INA/CLKO/CN29/RA3 (io), 6 PGED3/SOSCI/CN1/RB4 (io), 7 PGEC3/SOSCO/SCLKI/CN0/RA4 (io), 8 U1TX/INT0/CN23/RB7 (io), 9 SCL1/~{U1CTS}/~{SS1}/CN22/RB8 (io), 10 SDA1/T1CK/~{U1RTS}/CN21/RB9 (io), 11 CCP1/INT2/CN8/RA6 (io), 12 HLVDIN/SCK1/CCP2/CN14/RB12 (io), 13 SDO1/CN13/RB13 (io), 14 CVREF/AN10/SDI1/C1OUT/INT1/CN12/RB14 (io), 15 T3CK/REFO/CN11/RB15 (io), 16 VSS (power) "Ground Reference for Logic and I/O Pins", 17 VDD (power) "Positive Supply for Peripheral Digital Logic and I/O Pins", 18 ~{MCLR}/VPP/RA5 (io), 19 PGEC2/CVREF+/CN2/RA0 (io), 20 PGED2/CVREF-/CN3/RA1 (io), 21 EP (power) "Exposed Pad"

## PIC24F04KL101T-I/SS
designator U?
Low-Cost General Purpose 16-Bit Flash Microcontroller with nanoWatt XLP Technology, 16 MIPS, 17 I/O, -40 to 85 degC, 20-pin SSOP (SS20), Tape and Reel; Manufacturer: Microchip; PartNumber: PIC24F04KL101T-I/SS; DatasheetVersion: Rev. B; PackageVersion: C04-072B; PackageReference: SSOP-SS20; PackageDescription: 20-Lead Plastic Shrink Small Outline, 5.3 x 7.2 mm Body, 0.65 mm Pitch; Supplier 1: Digi-Key; Supplier Part Number 1: PIC24F04KL101T-I/SS-ND; Supplier 2: Mouser; Supplier Part Number 2: 579-PIC24F04K101TISS; Mounting Technology: Surface Mount; ComponentLink1Description: Manufacturer URL; ComponentLink1URL: http://www.microchip.com; ComponentLink2Description: Datasheet; ComponentLink2URL: http://ww1.microchip.com/downloads/en/DeviceDoc/31037b.pdf; ComponentLink3Description: Package Specification; ComponentLink3URL: http://www.microchip.com/stellent/groups/techpub_sg/documents/packagingspec/en012702.pdf; ComponentLink4Description: Product URL; ComponentLink4URL: http://www.microchip.com/PIC24F04KL101
footprint MCHP-SSOP-SS20_N (SOP, 20-Leads, Body 7.2x5.3mm, Pitch 0.65mm, IPC Medium Density)
footprint MCHP-SSOP-SS20_L (SOP, 20-Leads, Body 7.2x5.3mm, Pitch 0.65mm, IPC High Density)
footprint MCHP-SSOP-SS20_M (SOP, 20-Leads, Body 7.2x5.3mm, Pitch 0.65mm, IPC Low Density)
pins: 1 ~{MCLR}/VPP/RA5 (io), 2 PGEC2/CVREF+/CN2/RA0 (io), 3 PGED2/CVREF-/CN3/RA1 (io), 4 PGED1/ULPWU/C1IND/CN4/RB0 (io), 5 PGEC1/C1INC/CN5/RB1 (io), 6 T3G/U1RX/CN6/RB2 (io), 7 OSCI/C1INB/CLKI/CN30/RA2 (io), 8 OSCO/C1INA/CLKO/CN29/RA3 (io), 9 PGED3/SOSCI/CN1/RB4 (io), 10 PGEC3/SOSCO/SCLKI/CN0/RA4 (io), 11 U1TX/INT0/CN23/RB7 (io), 12 SCL1/~{U1CTS}/~{SS1}/CN22/RB8 (io), 13 SDA1/T1CK/~{U1RTS}/CN21/RB9 (io), 14 CCP1/INT2/CN8/RA6 (io), 15 HLVDIN/SCK1/CCP2/CN14/RB12 (io), 16 SDO1/CN13/RB13 (io), 17 CVREF/AN10/SDI1/C1OUT/INT1/CN12/RB14 (io), 18 T3CK/REFO/CN11/RB15 (io), 19 VSS (power) "Ground Reference for Logic and I/O Pins", 20 VDD (power) "Positive Supply for Peripheral Digital Logic and I/O Pins"

## PIC24F08KA101-E/MQ
designator U?
16-Bit Flash Microcontroller with nanoWatt XLP Technology, 8KB Flash, 1.5KB SRAM, 20-Pin QFN, Extended Temperature; Manufacturer: Microchip; PartNumber: PIC24F08KA101-E/MQ; DatasheetVersion: revB, Mar-2009; PackageVersion: revBB, Aug-2009; PackageReference: QFN-MQ20; PackageDescription: 20-Lead Plastic Quad Flat, No Lead Package (MQ) - 5x5x0.9 mm Body [QFN]; Supplier 1: Digi-Key; Supplier Part Number 1: PIC24F08KA101-E/MQ-ND; Supplier 2: Newark; Supplier Part Number 2: 73R8676; Supplier 3: Mouser; Supplier Part Number 3: 579-PIC24F08KA101EMQ; Mounting Technology: Surface Mount; ComponentLink1Description: Manufacturer URL; ComponentLink1URL: http://www.microchip.com/; ComponentLink2Description: Datasheet; ComponentLink2URL: http://ww1.microchip.com/downloads/en/DeviceDoc/PIC24F16KA102_Family_datasheet_39927b.pdf; ComponentLink3Description: Package Specification; ComponentLink3URL: http://www.microchip.com/stellent/groups/techpub_sg/documents/packagingspec/en012702.pdf
footprint QFN-MQ20_N (QFN, 20-Leads, Body 5x5mm, Pitch 0.65mm, Thermal Pad 3.4x3.4mm, IPC Medium Density)
footprint QFN-MQ20_L (QFN, 20-Leads, Body 5x5mm, Pitch 0.65mm, Thermal Pad 3.4x3.4mm, IPC High Density)
footprint QFN-MQ20_M (QFN, 20-Leads, Body 5x5mm, Pitch 0.65mm, Thermal Pad 3.4x3.4mm, IPC Low Density)
pins: 1 PGD1/AN2/C1IND/C2INB/U2TX/CN4/RB0 (io), 2 PGC1/AN3/C1INC/C2INA/U2RX/U2BCLK/CN5/RB1 (io), 3 U1RX/U1BCLK/CN6/RB2 (io), 4 OSCI/CLKI/AN4/C1INB/C2IND/CN30/RA2 (io), 5 OSCO/CLKO/AN5/C1INA/C2INC/CN29/RA3 (io), 6 PGD3/SOSCI/~{U2RTS}/CN1/RB4 (io), 7 PGC3/SOSCO/T1CK/~{U2CTS}/CN0/RA4 (io), 8 U1TX/INT0/CN23/RB7 (io), 9 ~{U1CTS}/SCL1/CN22/RB8 (io), 10 ~{U1RTS}/SDA1/CN21/RB9 (io), 11 OC1/IC1/C2OUT/INT2/CTED1/CN8/RA6 (io), 12 AN12/HLVDIN/SCK1/CTED2/CN14/RB12 (io), 13 AN11/SDO1/CTPLS/CN13/RB13 (io), 14 AN10/CVREF/RTCC/SDI1/OCFA/C1OUT/INT1/CN12/RB14 (io), 15 REFO/~{SS1}/T2CK/T3CK/CN11/RB15 (io), 16 VSS (power), 17 VDD (power), 18 ~{MCLR}/VPP/RA5 (io), 19 PGC2/AN0/VREF+/CN2/RA0 (io), 20 PGD2/AN1/VREF-/CN3/RA1 (io), 21 VSS (power)

## PIC24F08KA101-E/P
designator U?
16-Bit Flash Microcontroller with nanoWatt XLP Technology, 8KB Flash, 1.5KB SRAM, 20-Pin PDIP, Extended Temperature; Manufacturer: Microchip; PartNumber: PIC24F08KA101-E/P; DatasheetVersion: revB, Mar-2009; PackageVersion: revBB, Aug-2009; PackageReference: PDIP300-P20; PackageDescription: 20-Lead Plastic Dual In-Line (P) - 300 mil Body [PDIP]; Supplier 1: Digi-Key; Supplier Part Number 1: PIC24F08KA101-E/P-ND; Supplier 2: Mouser; Supplier Part Number 2: 579-PIC24F08KA101E/P; Mounting Technology: Through Hole; ComponentLink1Description: Manufacturer URL; ComponentLink1URL: http://www.microchip.com/; ComponentLink2Description: Datasheet; ComponentLink2URL: http://ww1.microchip.com/downloads/en/DeviceDoc/PIC24F16KA102_Family_datasheet_39927b.pdf; ComponentLink3Description: Package Specification; ComponentLink3URL: http://www.microchip.com/stellent/groups/techpub_sg/documents/packagingspec/en012702.pdf
footprint PDIP300-P20 (DIP, 20-Leads, Row Spacing 7.62mm, Pitch 2.54mm, Body 25.9x6.6mm)
pins: 1 ~{MCLR}/VPP/RA5 (io), 2 PGC2/AN0/VREF+/CN2/RA0 (io), 3 PGD2/AN1/VREF-/CN3/RA1 (io), 4 PGD1/AN2/C1IND/C2INB/U2TX/CN4/RB0 (io), 5 PGC1/AN3/C1INC/C2INA/U2RX/U2BCLK/CN5/RB1 (io), 6 U1RX/U1BCLK/CN6/RB2 (io), 7 OSCI/CLKI/AN4/C1INB/C2IND/CN30/RA2 (io), 8 OSCO/CLKO/AN5/C1INA/C2INC/CN29/RA3 (io), 9 PGD3/SOSCI/~{U2RTS}/CN1/RB4 (io), 10 PGC3/SOSCO/T1CK/~{U2CTS}/CN0/RA4 (io), 11 U1TX/INT0/CN23/RB7 (io), 12 ~{U1CTS}/SCL1/CN22/RB8 (io), 13 ~{U1RTS}/SDA1/CN21/RB9 (io), 14 OC1/IC1/C2OUT/INT2/CTED1/CN8/RA6 (io), 15 AN12/HLVDIN/SCK1/CTED2/CN14/RB12 (io), 16 AN11/SDO1/CTPLS/CN13/RB13 (io), 17 AN10/CVREF/RTCC/SDI1/OCFA/C1OUT/INT1/CN12/RB14 (io), 18 REFO/~{SS1}/T2CK/T3CK/CN11/RB15 (io), 19 VSS (power), 20 VDD (power)

## PIC24F08KA101-E/SO
designator U?
16-Bit Flash Microcontroller with nanoWatt XLP Technology, 8KB Flash, 1.5KB SRAM, 20-Pin SOIC, Extended Temperature; Manufacturer: Microchip; PartNumber: PIC24F08KA101-E/SO; DatasheetVersion: revB, Mar-2009; PackageVersion: revBB, Aug-2009; PackageReference: SOIC-SO20; PackageDescription: 20-Lead Plastic Small Outline (SO) - Wide 7.50mm Body [SOIC]; Supplier 1: Digi-Key; Supplier Part Number 1: PIC24F08KA101-E/SO-ND; Supplier 2: Mouser; Supplier Part Number 2: 579-PIC24F08KA101ESO; Mounting Technology: Surface Mount; Code_JEDEC: MS-013-AC; Code_IPC: SOIC127P1030-20; ComponentLink1Description: Manufacturer URL; ComponentLink1URL: http://www.microchip.com/; ComponentLink2Description: Datasheet; ComponentLink2URL: http://ww1.microchip.com/downloads/en/DeviceDoc/PIC24F16KA102_Family_datasheet_39927b.pdf; ComponentLink3Description: Package Specification; ComponentLink3URL: http://www.microchip.com/stellent/groups/techpub_sg/documents/packagingspec/en012702.pdf
footprint SOIC-SO20_N (SOIC, 20-Leads, Body 12.8x7.5mm, Pitch 1.27mm, IPC Medium Density)
footprint SOIC-SO20_L (SOIC, 20-Leads, Body 12.8x7.5mm, Pitch 1.27mm, IPC High Density)
footprint SOIC-SO20_M (SOIC, 20-Leads, Body 12.8x7.5mm, Pitch 1.27mm, IPC Low Density)
pins: 1 ~{MCLR}/VPP/RA5 (io), 2 PGC2/AN0/VREF+/CN2/RA0 (io), 3 PGD2/AN1/VREF-/CN3/RA1 (io), 4 PGD1/AN2/C1IND/C2INB/U2TX/CN4/RB0 (io), 5 PGC1/AN3/C1INC/C2INA/U2RX/U2BCLK/CN5/RB1 (io), 6 U1RX/U1BCLK/CN6/RB2 (io), 7 OSCI/CLKI/AN4/C1INB/C2IND/CN30/RA2 (io), 8 OSCO/CLKO/AN5/C1INA/C2INC/CN29/RA3 (io), 9 PGD3/SOSCI/~{U2RTS}/CN1/RB4 (io), 10 PGC3/SOSCO/T1CK/~{U2CTS}/CN0/RA4 (io), 11 U1TX/INT0/CN23/RB7 (io), 12 ~{U1CTS}/SCL1/CN22/RB8 (io), 13 ~{U1RTS}/SDA1/CN21/RB9 (io), 14 OC1/IC1/C2OUT/INT2/CTED1/CN8/RA6 (io), 15 AN12/HLVDIN/SCK1/CTED2/CN14/RB12 (io), 16 AN11/SDO1/CTPLS/CN13/RB13 (io), 17 AN10/CVREF/RTCC/SDI1/OCFA/C1OUT/INT1/CN12/RB14 (io), 18 REFO/~{SS1}/T2CK/T3CK/CN11/RB15 (io), 19 VSS (power), 20 VDD (power)

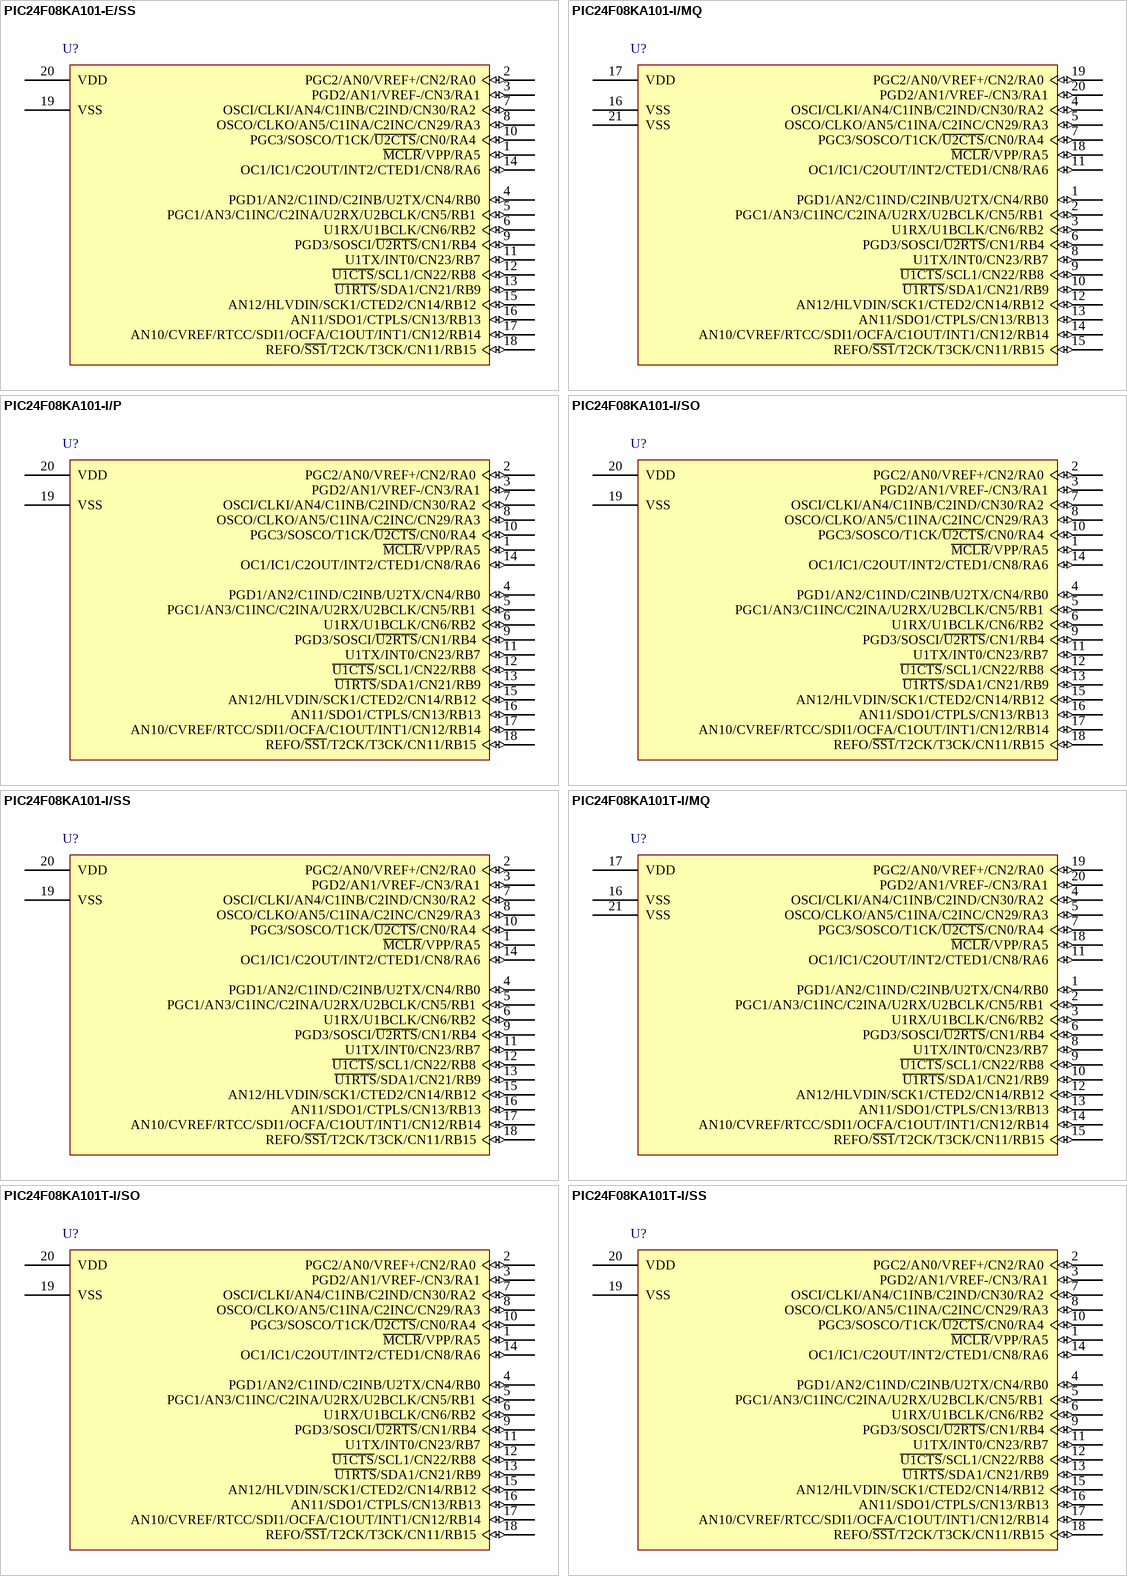
[diagram p2: symbols PIC24F08KA101-E/SS to PIC24F08KA101T-I/SS]

## PIC24F08KA101-E/SS
designator U?
16-Bit Flash Microcontroller with nanoWatt XLP Technology, 8KB Flash, 1.5KB SRAM, 20-Pin SSOP, Extended Temperature; Manufacturer: Microchip; PartNumber: PIC24F08KA101-E/SS; DatasheetVersion: revB, Mar-2009; PackageVersion: revBB, Aug-2009; PackageReference: SSOP-SS20; PackageDescription: 20-Lead Plastic Shrink Small Outline (SS) - 5.3mm Body [SSOP]; Supplier 1: Digi-Key; Supplier Part Number 1: PIC24F08KA101-E/SS-ND; Supplier 2: Mouser; Supplier Part Number 2: 579-PIC24F08KA101ESS; Mounting Technology: Surface Mount; Code_JEDEC: MO-150; ComponentLink1Description: Manufacturer URL; ComponentLink1URL: http://www.microchip.com/; ComponentLink2Description: Datasheet; ComponentLink2URL: http://ww1.microchip.com/downloads/en/DeviceDoc/PIC24F16KA102_Family_datasheet_39927b.pdf; ComponentLink3Description: Package Specification; ComponentLink3URL: http://www.microchip.com/stellent/groups/techpub_sg/documents/packagingspec/en012702.pdf
footprint SSOP-SS20_N (SOP, 20-Leads, Body 7.2x5.2mm, Pitch 0.65mm, IPC Medium Density)
footprint SSOP-SS20_L (SOP, 20-Leads, Body 7.2x5.2mm, Pitch 0.65mm, IPC High Density)
footprint SSOP-SS20_M (SOP, 20-Leads, Body 7.2x5.2mm, Pitch 0.65mm, IPC Low Density)
pins: 1 ~{MCLR}/VPP/RA5 (io), 2 PGC2/AN0/VREF+/CN2/RA0 (io), 3 PGD2/AN1/VREF-/CN3/RA1 (io), 4 PGD1/AN2/C1IND/C2INB/U2TX/CN4/RB0 (io), 5 PGC1/AN3/C1INC/C2INA/U2RX/U2BCLK/CN5/RB1 (io), 6 U1RX/U1BCLK/CN6/RB2 (io), 7 OSCI/CLKI/AN4/C1INB/C2IND/CN30/RA2 (io), 8 OSCO/CLKO/AN5/C1INA/C2INC/CN29/RA3 (io), 9 PGD3/SOSCI/~{U2RTS}/CN1/RB4 (io), 10 PGC3/SOSCO/T1CK/~{U2CTS}/CN0/RA4 (io), 11 U1TX/INT0/CN23/RB7 (io), 12 ~{U1CTS}/SCL1/CN22/RB8 (io), 13 ~{U1RTS}/SDA1/CN21/RB9 (io), 14 OC1/IC1/C2OUT/INT2/CTED1/CN8/RA6 (io), 15 AN12/HLVDIN/SCK1/CTED2/CN14/RB12 (io), 16 AN11/SDO1/CTPLS/CN13/RB13 (io), 17 AN10/CVREF/RTCC/SDI1/OCFA/C1OUT/INT1/CN12/RB14 (io), 18 REFO/~{SS1}/T2CK/T3CK/CN11/RB15 (io), 19 VSS (power), 20 VDD (power)

## PIC24F08KA101-I/MQ
designator U?
16-Bit Flash Microcontroller with nanoWatt XLP Technology, 8KB Flash, 1.5KB SRAM, 20-Pin QFN, Industrial Temperature; Manufacturer: Microchip; PartNumber: PIC24F08KA101-I/MQ; DatasheetVersion: revB, Mar-2009; PackageVersion: revBB, Aug-2009; PackageReference: QFN-MQ20; PackageDescription: 20-Lead Plastic Quad Flat, No Lead Package (MQ) - 5x5x0.9 mm Body [QFN]; Supplier 1: Digi-Key; Supplier Part Number 1: PIC24F08KA101-I/MQ-ND; Supplier 2: Farnell; Supplier Part Number 2: 1740238; Supplier 3: Newark; Supplier Part Number 3: 65T6698; Supplier 4: Mouser; Supplier Part Number 4: 579-PIC24F08KA101IMQ; Mounting Technology: Surface Mount; ComponentLink1Description: Manufacturer URL; ComponentLink1URL: http://www.microchip.com/; ComponentLink2Description: Datasheet; ComponentLink2URL: http://ww1.microchip.com/downloads/en/DeviceDoc/PIC24F16KA102_Family_datasheet_39927b.pdf; ComponentLink3Description: Package Specification; ComponentLink3URL: http://www.microchip.com/stellent/groups/techpub_sg/documents/packagingspec/en012702.pdf
footprint QFN-MQ20_N (QFN, 20-Leads, Body 5x5mm, Pitch 0.65mm, Thermal Pad 3.4x3.4mm, IPC Medium Density)
footprint QFN-MQ20_L (QFN, 20-Leads, Body 5x5mm, Pitch 0.65mm, Thermal Pad 3.4x3.4mm, IPC High Density)
footprint QFN-MQ20_M (QFN, 20-Leads, Body 5x5mm, Pitch 0.65mm, Thermal Pad 3.4x3.4mm, IPC Low Density)
pins: 1 PGD1/AN2/C1IND/C2INB/U2TX/CN4/RB0 (io), 2 PGC1/AN3/C1INC/C2INA/U2RX/U2BCLK/CN5/RB1 (io), 3 U1RX/U1BCLK/CN6/RB2 (io), 4 OSCI/CLKI/AN4/C1INB/C2IND/CN30/RA2 (io), 5 OSCO/CLKO/AN5/C1INA/C2INC/CN29/RA3 (io), 6 PGD3/SOSCI/~{U2RTS}/CN1/RB4 (io), 7 PGC3/SOSCO/T1CK/~{U2CTS}/CN0/RA4 (io), 8 U1TX/INT0/CN23/RB7 (io), 9 ~{U1CTS}/SCL1/CN22/RB8 (io), 10 ~{U1RTS}/SDA1/CN21/RB9 (io), 11 OC1/IC1/C2OUT/INT2/CTED1/CN8/RA6 (io), 12 AN12/HLVDIN/SCK1/CTED2/CN14/RB12 (io), 13 AN11/SDO1/CTPLS/CN13/RB13 (io), 14 AN10/CVREF/RTCC/SDI1/OCFA/C1OUT/INT1/CN12/RB14 (io), 15 REFO/~{SS1}/T2CK/T3CK/CN11/RB15 (io), 16 VSS (power), 17 VDD (power), 18 ~{MCLR}/VPP/RA5 (io), 19 PGC2/AN0/VREF+/CN2/RA0 (io), 20 PGD2/AN1/VREF-/CN3/RA1 (io), 21 VSS (power)

## PIC24F08KA101-I/P
designator U?
16-Bit Flash Microcontroller with nanoWatt XLP Technology, 8KB Flash, 1.5KB SRAM, 20-Pin PDIP, Industrial Temperature; Manufacturer: Microchip; PartNumber: PIC24F08KA101-I/P; DatasheetVersion: revB, Mar-2009; PackageVersion: revBB, Aug-2009; PackageReference: PDIP300-P20; PackageDescription: 20-Lead Plastic Dual In-Line (P) - 300 mil Body [PDIP]; Supplier 1: Digi-Key; Supplier Part Number 1: PIC24F08KA101-I/P-ND; Supplier 2: Farnell; Supplier Part Number 2: 1707617; Supplier 3: Newark; Supplier Part Number 3: 40M1451; Supplier 4: Mouser; Supplier Part Number 4: 579-PIC24F08KA101IP; Mounting Technology: Through Hole; ComponentLink1Description: Manufacturer URL; ComponentLink1URL: http://www.microchip.com/; ComponentLink2Description: Datasheet; ComponentLink2URL: http://ww1.microchip.com/downloads/en/DeviceDoc/PIC24F16KA102_Family_datasheet_39927b.pdf; ComponentLink3Description: Package Specification; ComponentLink3URL: http://www.microchip.com/stellent/groups/techpub_sg/documents/packagingspec/en012702.pdf
footprint PDIP300-P20 (DIP, 20-Leads, Row Spacing 7.62mm, Pitch 2.54mm, Body 25.9x6.6mm)
pins: 1 ~{MCLR}/VPP/RA5 (io), 2 PGC2/AN0/VREF+/CN2/RA0 (io), 3 PGD2/AN1/VREF-/CN3/RA1 (io), 4 PGD1/AN2/C1IND/C2INB/U2TX/CN4/RB0 (io), 5 PGC1/AN3/C1INC/C2INA/U2RX/U2BCLK/CN5/RB1 (io), 6 U1RX/U1BCLK/CN6/RB2 (io), 7 OSCI/CLKI/AN4/C1INB/C2IND/CN30/RA2 (io), 8 OSCO/CLKO/AN5/C1INA/C2INC/CN29/RA3 (io), 9 PGD3/SOSCI/~{U2RTS}/CN1/RB4 (io), 10 PGC3/SOSCO/T1CK/~{U2CTS}/CN0/RA4 (io), 11 U1TX/INT0/CN23/RB7 (io), 12 ~{U1CTS}/SCL1/CN22/RB8 (io), 13 ~{U1RTS}/SDA1/CN21/RB9 (io), 14 OC1/IC1/C2OUT/INT2/CTED1/CN8/RA6 (io), 15 AN12/HLVDIN/SCK1/CTED2/CN14/RB12 (io), 16 AN11/SDO1/CTPLS/CN13/RB13 (io), 17 AN10/CVREF/RTCC/SDI1/OCFA/C1OUT/INT1/CN12/RB14 (io), 18 REFO/~{SS1}/T2CK/T3CK/CN11/RB15 (io), 19 VSS (power), 20 VDD (power)

## PIC24F08KA101-I/SO
designator U?
16-Bit Flash Microcontroller with nanoWatt XLP Technology, 8KB Flash, 1.5KB SRAM, 20-Pin SOIC, Industrial Temperature; Manufacturer: Microchip; PartNumber: PIC24F08KA101-I/SO; DatasheetVersion: revB, Mar-2009; PackageVersion: revBB, Aug-2009; PackageReference: SOIC-SO20; PackageDescription: 20-Lead Plastic Small Outline (SO) - Wide 7.50mm Body [SOIC]; Supplier 1: Digi-Key; Supplier Part Number 1: PIC24F08KA101-I/SO-ND; Supplier 2: Farnell; Supplier Part Number 2: 1707618; Supplier 3: Newark; Supplier Part Number 3: 40M1452; Supplier 4: Mouser; Supplier Part Number 4: 579-PIC24F08KA101ISO; Mounting Technology: Surface Mount; Code_JEDEC: MS-013-AC; Code_IPC: SOIC127P1030-20; ComponentLink1Description: Manufacturer URL; ComponentLink1URL: http://www.microchip.com/; ComponentLink2Description: Datasheet; ComponentLink2URL: http://ww1.microchip.com/downloads/en/DeviceDoc/PIC24F16KA102_Family_datasheet_39927b.pdf; ComponentLink3Description: Package Specification; ComponentLink3URL: http://www.microchip.com/stellent/groups/techpub_sg/documents/packagingspec/en012702.pdf
footprint SOIC-SO20_N (SOIC, 20-Leads, Body 12.8x7.5mm, Pitch 1.27mm, IPC Medium Density)
footprint SOIC-SO20_L (SOIC, 20-Leads, Body 12.8x7.5mm, Pitch 1.27mm, IPC High Density)
footprint SOIC-SO20_M (SOIC, 20-Leads, Body 12.8x7.5mm, Pitch 1.27mm, IPC Low Density)
pins: 1 ~{MCLR}/VPP/RA5 (io), 2 PGC2/AN0/VREF+/CN2/RA0 (io), 3 PGD2/AN1/VREF-/CN3/RA1 (io), 4 PGD1/AN2/C1IND/C2INB/U2TX/CN4/RB0 (io), 5 PGC1/AN3/C1INC/C2INA/U2RX/U2BCLK/CN5/RB1 (io), 6 U1RX/U1BCLK/CN6/RB2 (io), 7 OSCI/CLKI/AN4/C1INB/C2IND/CN30/RA2 (io), 8 OSCO/CLKO/AN5/C1INA/C2INC/CN29/RA3 (io), 9 PGD3/SOSCI/~{U2RTS}/CN1/RB4 (io), 10 PGC3/SOSCO/T1CK/~{U2CTS}/CN0/RA4 (io), 11 U1TX/INT0/CN23/RB7 (io), 12 ~{U1CTS}/SCL1/CN22/RB8 (io), 13 ~{U1RTS}/SDA1/CN21/RB9 (io), 14 OC1/IC1/C2OUT/INT2/CTED1/CN8/RA6 (io), 15 AN12/HLVDIN/SCK1/CTED2/CN14/RB12 (io), 16 AN11/SDO1/CTPLS/CN13/RB13 (io), 17 AN10/CVREF/RTCC/SDI1/OCFA/C1OUT/INT1/CN12/RB14 (io), 18 REFO/~{SS1}/T2CK/T3CK/CN11/RB15 (io), 19 VSS (power), 20 VDD (power)

## PIC24F08KA101-I/SS
designator U?
16-Bit Flash Microcontroller with nanoWatt XLP Technology, 8KB Flash, 1.5KB SRAM, 20-Pin SSOP, Industrial Temperature; Manufacturer: Microchip; PartNumber: PIC24F08KA101-I/SS; DatasheetVersion: revB, Mar-2009; PackageVersion: revBB, Aug-2009; PackageReference: SSOP-SS20; PackageDescription: 20-Lead Plastic Shrink Small Outline (SS) - 5.3mm Body [SSOP]; Supplier 1: Digi-Key; Supplier Part Number 1: PIC24F08KA101-I/SS-ND; Supplier 2: Farnell; Supplier Part Number 2: 1707621; Supplier 3: Newark; Supplier Part Number 3: 40M1453; Supplier 4: Mouser; Supplier Part Number 4: 579-PIC24F08KA101ISS; Mounting Technology: Surface Mount; Code_JEDEC: MO-150; ComponentLink1Description: Manufacturer URL; ComponentLink1URL: http://www.microchip.com/; ComponentLink2Description: Datasheet; ComponentLink2URL: http://ww1.microchip.com/downloads/en/DeviceDoc/PIC24F16KA102_Family_datasheet_39927b.pdf; ComponentLink3Description: Package Specification; ComponentLink3URL: http://www.microchip.com/stellent/groups/techpub_sg/documents/packagingspec/en012702.pdf
footprint SSOP-SS20_N (SOP, 20-Leads, Body 7.2x5.2mm, Pitch 0.65mm, IPC Medium Density)
footprint SSOP-SS20_L (SOP, 20-Leads, Body 7.2x5.2mm, Pitch 0.65mm, IPC High Density)
footprint SSOP-SS20_M (SOP, 20-Leads, Body 7.2x5.2mm, Pitch 0.65mm, IPC Low Density)
pins: 1 ~{MCLR}/VPP/RA5 (io), 2 PGC2/AN0/VREF+/CN2/RA0 (io), 3 PGD2/AN1/VREF-/CN3/RA1 (io), 4 PGD1/AN2/C1IND/C2INB/U2TX/CN4/RB0 (io), 5 PGC1/AN3/C1INC/C2INA/U2RX/U2BCLK/CN5/RB1 (io), 6 U1RX/U1BCLK/CN6/RB2 (io), 7 OSCI/CLKI/AN4/C1INB/C2IND/CN30/RA2 (io), 8 OSCO/CLKO/AN5/C1INA/C2INC/CN29/RA3 (io), 9 PGD3/SOSCI/~{U2RTS}/CN1/RB4 (io), 10 PGC3/SOSCO/T1CK/~{U2CTS}/CN0/RA4 (io), 11 U1TX/INT0/CN23/RB7 (io), 12 ~{U1CTS}/SCL1/CN22/RB8 (io), 13 ~{U1RTS}/SDA1/CN21/RB9 (io), 14 OC1/IC1/C2OUT/INT2/CTED1/CN8/RA6 (io), 15 AN12/HLVDIN/SCK1/CTED2/CN14/RB12 (io), 16 AN11/SDO1/CTPLS/CN13/RB13 (io), 17 AN10/CVREF/RTCC/SDI1/OCFA/C1OUT/INT1/CN12/RB14 (io), 18 REFO/~{SS1}/T2CK/T3CK/CN11/RB15 (io), 19 VSS (power), 20 VDD (power)